# EAGLE library part LTC6409IUDB#TRMPBF (library LTC6409IUDB#TRMPBF)
High Speed Operational Amplifiers 10GHz GBW 1.1nV/rtHz Differential Amp Source: Datasheet <https://www.analog.com/media/en/technical-documentation/data-sheets/6409fb.pdf>
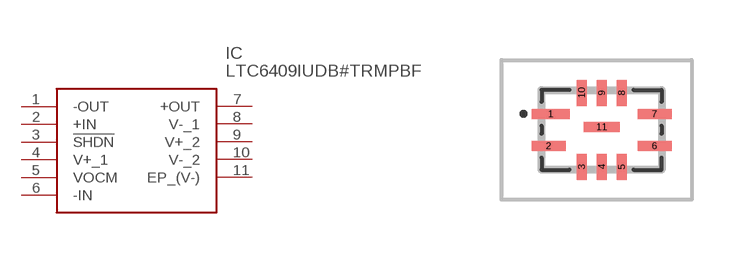
[diagram p0: symbol with the pads of LTC6409IUDBTRMPBF; footprint LTC6409IUDBTRMPBF]

Designator prefix IC

## LTC6409IUDB#TRMPBF (Description: High Speed Operational Amplifiers 10GHz GBW 1.1nV/rtHz Differential Amp; Height: 0.85mm; Manufacturer_Name: Analog Devices; Manufacturer_Part_Number: LTC6409IUDB#TRMPBF; Mouser_Part_Number: 584-C6409IUDBTRMPBF; Mouser_Price-Stock: https://www.mouser.co.uk/ProductDetail/Analog-Devices/LTC6409IUDBTRMPBF?qs=hVkxg5c3xu%252BCxcBUxz33zw%3D%3D)  [LTC6409IUDBTRMPBF]
1  -OUT
2  +IN
3  !SHDN
4  V+_1
5  VOCM
6  -IN
7  +OUT
8  V-_1
9  V+_2
10  V-_2
11  EP_(V-)

## Footprint LTC6409IUDBTRMPBF (pad centres in mm)
UDB PACKAGE 10-LEAD (3mm × 2mm) PLASTIC QFN
smd 0.95 x 0.25: 1 -1.275,0.4
smd 0.85 x 0.25: 2 -1.325,-0.4; 6 1.325,-0.4; 7 1.325,0.4
smd 0.25 x 0.65: 3 -0.5,-0.925; 4 0,-0.925; 5 0.5,-0.925; 8 0.5,0.925; 9 0,0.925; 10 -0.5,0.925
smd 0.9 x 0.25: 11 0,0.075